# Altium schematic symbol library BARE_BOARD.Schlib: 1 symbol
Pins are listed as number, name and electrical type; pins without a type are passive.

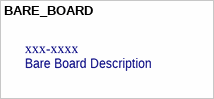
[diagram p0: symbol BARE_BOARD]

## BARE_BOARD
designator *, comment Bare Board Description  CMW P/N: xxx-xxxx  (mechanical)